# Altium schematic symbol library Nexperia.SchLib: 1 symbol
Pins are listed as number, name and electrical type; pins without a type are passive.

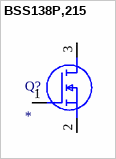
[diagram p0: symbol BSS138P,215]

## BSS138P,215
designator Q?
MOSFET (N-Channel); Manufacturer_Name: Nexperia; Manufacturer_Part_Number: BSS138P,215; Datasheet Link: https://assets.nexperia.com/documents/data-sheet/BSS138P.pdf; Height: 1.1mm; Mouser Part Number: 771-BSS138P215; Mouser Price/Stock: https://www.mouser.co.uk/ProductDetail/Nexperia/BSS138P215?qs=A1cBxND5mHJyVAOcRahidg%3D%3D; Arrow Part Number: BSS138P,215; Arrow Price/Stock: https://www.arrow.com/en/products/bss138p215/nexperia?utm_currency=USD&region=nac
footprint SOT95P230X110-3N
pins: 1 G, 2 S, 3 D